# EAGLE library part JST_6PIN_1MM (library NewsPoet)
JST SH Horizontal 6-Pin Connector -SMD Pin count: 6 Pin pitch: 1mm JST product name: SM06B-SRSS-TB datasheet <https://www.jst-mfg.com/product/index.php?series=231>
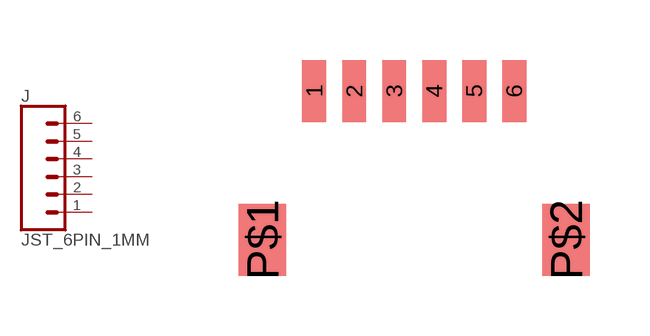
[diagram p3: symbol with the pads of JST_6PIN_1MM; footprint JST_6PIN_1MM]

Designator prefix J

## JST_6PIN_1MMSMD-1MM (PROD_ID: CONN-08249; SF_ID: GPS-00579)  [JST_6PIN_1MM]
1  1  pas
2  2  pas
3  3  pas
4  4  pas
5  5  pas
6  6  pas

## Footprint JST_6PIN_1MM (pad centres in mm)
JST SH Horizontal 6-Pin Connector -SMD Pin count: 6 Pin pitch: 1mm JST product name: SM06B-SRSS-TB datasheet <https://www.jst-mfg.com/product/index.php?series=231>
smd 0.6 x 1.55: 1 -2.54,1.27; 2 -1.54,1.27; 3 -0.54,1.27; 4 0.46,1.27; 5 1.46,1.27; 6 2.46,1.27
smd 1.2 x 1.8: P$1 -3.84,-2.455; P$2 3.76,-2.455